# EAGLE library part HDMI_MINI (library SHC)
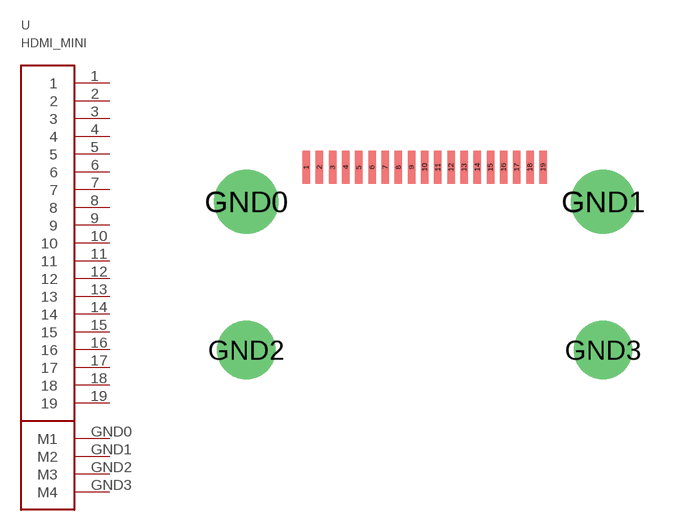
[diagram p8: symbol with the pads of HDMI_MINI; footprint HDMI_MINI]

Designator prefix -

## HDMI_MINI  [HDMI_MINI]
1  1
2  2
3  3
4  4
5  5
6  6
7  7
8  8
9  9
10  10
11  11
12  12
13  13
14  14
15  15
16  16
17  17
18  18
19  19
GND0  M1
GND1  M2
GND2  M3
GND3  M4

## Footprint HDMI_MINI (pad centres in mm)
smd 0.23 x 1: 1 -3.6,0; 2 -3.2,0; 3 -2.8,0; 4 -2.4,0; 5 -2,0; 6 -1.6,0; 7 -1.2,0; 8 -0.8,0; 9 -0.4,0; 10 0,0; 11 0.4,0; 12 0.8,0; 13 1.2,0; 14 1.6,0; 15 2,0; 16 2.4,0; 17 2.8,0; 18 3.2,0; 19 3.6,0
drill 1.3 pad 1.93: GND0 -5.425,-1.05; GND1 5.425,-1.05
drill 1.1 pad 1.778: GND2 -5.425,-5.55; GND3 5.425,-5.55